# Altium schematic symbol library LimeMicroAltiumLib.SchLib: 659 symbols (part 12 of 22)
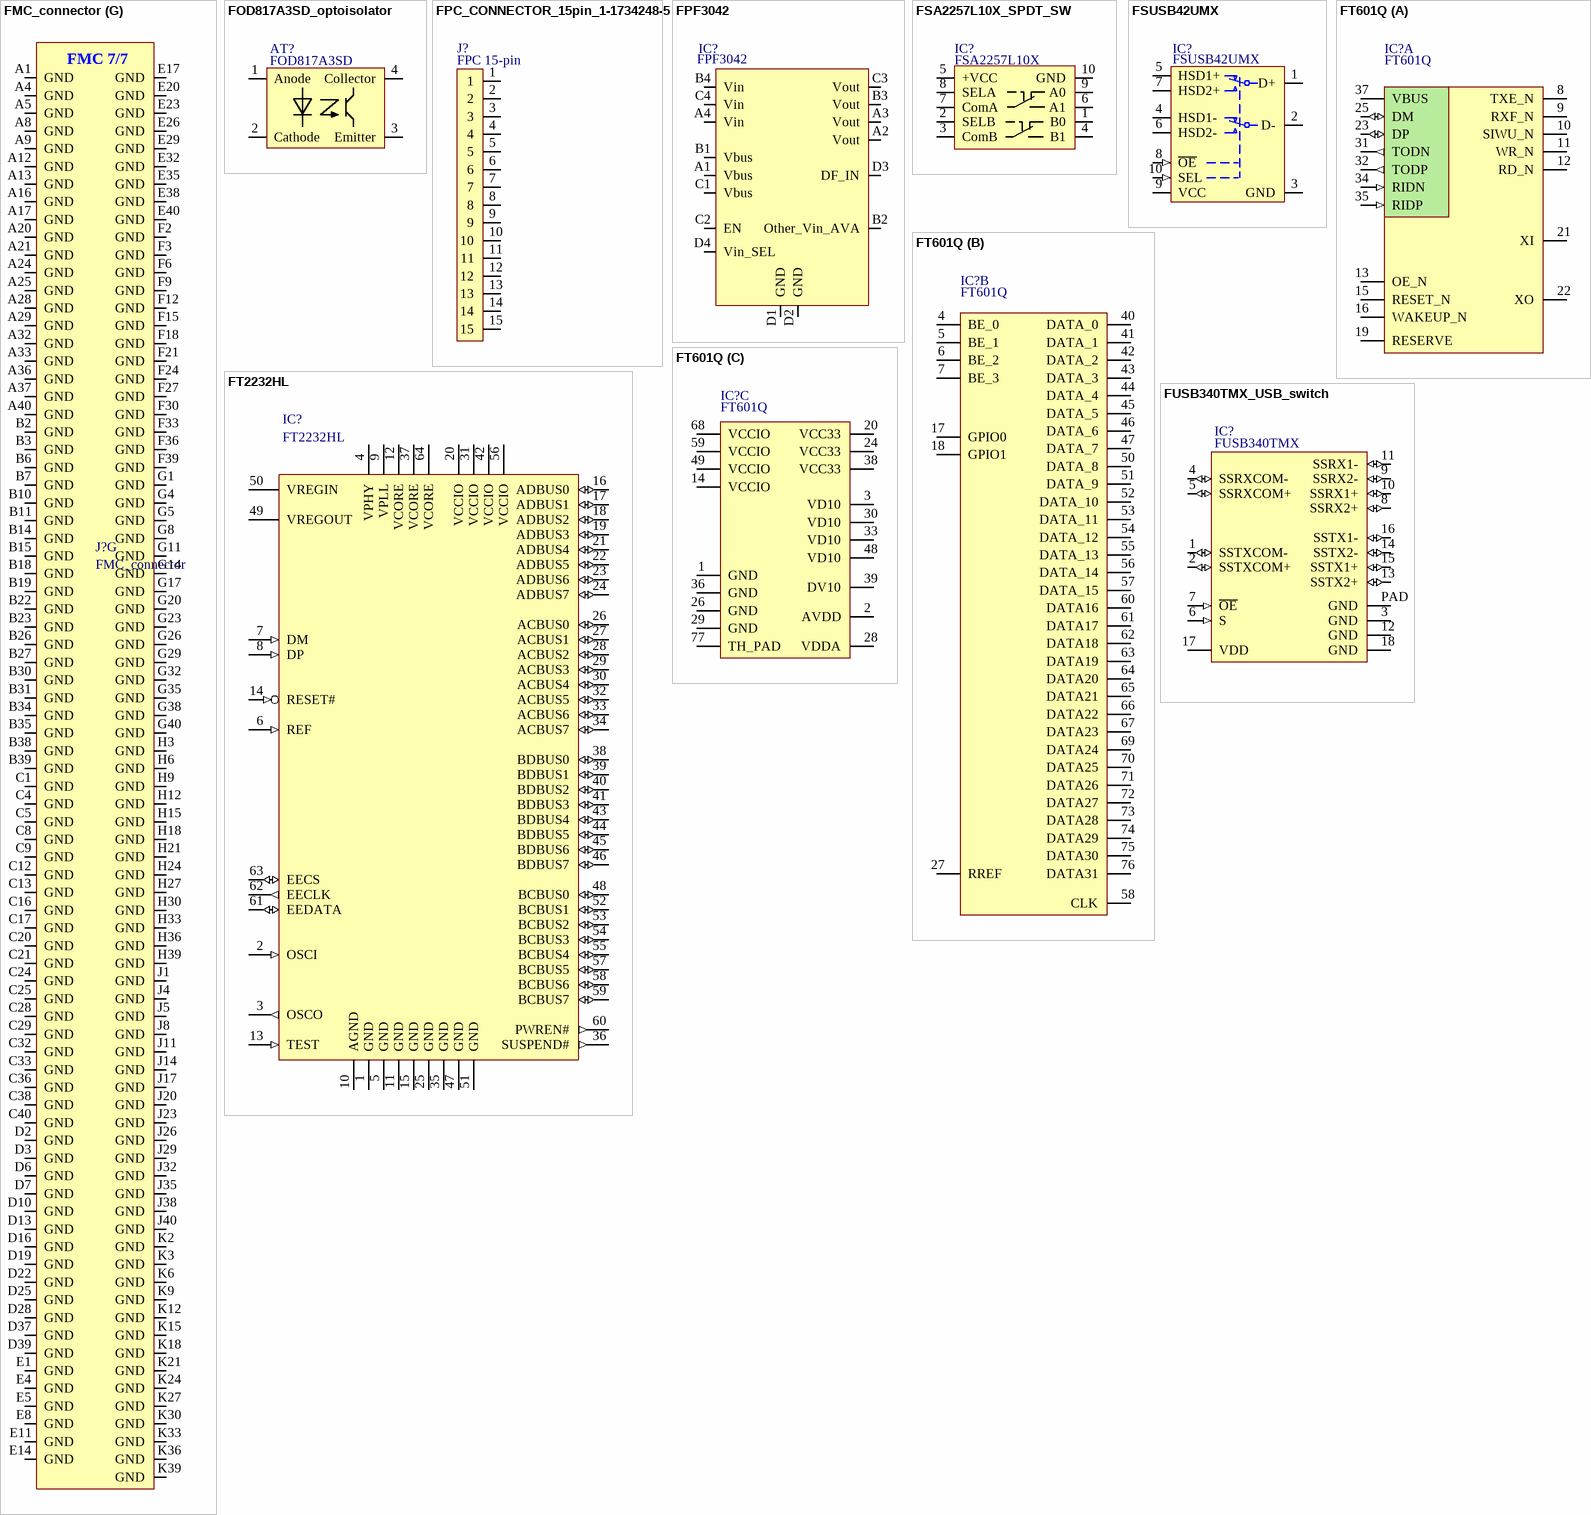
[diagram p89: symbols FMC_connector to FUSB340TMX_USB_switch]

## FMC_connector
designator J?
Manufacturer Part Number: ASP-134603-01; Supplier 1: Digi-Key; Category: Connectors, Interconnects; Supplier Part Number: SAM8729-ND
footprint FMC_full_conn
part A pins: C10 LA06_P, C11 LA06_N, C14 LA10_P, C15 LA10_N, C18 LA14_P, C19 LA14_N, C22 LA18_CC_P, C23 LA18_CC_N, C26 LA27_P, C27 LA27_N, D8 LA01_CC_P, D9 LA01_CC_N, D11 LA05_P, D12 LA05_N, D14 LA09_P, D15 LA09_N, D17 LA13_P, D18 LA13_N, D20 LA17_CC_P, D21 LA17_CC_N, D23 LA23_P, D24 LA23_N, D26 LA26_P, D27 LA26_N, G6 LA00_CC_P, G7 LA00_CC_N, G9 LA03_P, G10 LA03_N, G12 LA08_P, G13 LA08_N, G15 LA12_P, G16 LA12_N, G18 LA16_P, G19 LA16_N, G21 LA20_P, G22 LA20_N, G24 LA22_P, G25 LA22_N, G27 LA25_P, G28 LA25_N, G30 LA29_P, G31 LA29_N, G33 LA31_P, G34 LA31_N, G36 LA33_P, G37 LA33_N, H7 LA02_P, H8 LA02_N, H10 LA04_P, H11 LA04_N, H13 LA07_P, H14 LA07_N, H16 LA11_P, H17 LA11_N, H19 LA15_P, H20 LA15_N, H22 LA19_P, H23 LA19_N, H25 LA21_P, H26 LA21_N, H28 LA24_P, H29 LA24_N, H31 LA28_P, H32 LA28_N, H34 LA30_P, H35 LA30_N, H37 LA32_P, H38 LA32_N
part B pins: E2 HA01_CC_P, E3 HA01_CC_N, E6 HA05_P, E7 HA05_N, E9 HA09_P, E10 HA09_N, E12 HA13_P, E13 HA13_N, E15 HA16_P, E16 HA16_N, E18 HA20_P, E19 HA20_N, F4 HA00_CC_P, F5 HA00_CC_N, F7 HA04_P, F8 HA04_N, F10 HA08_P, F11 HA08_N, F13 HA12_P, F14 HA12_N, F16 HA15_P, F17 HA15_N, F19 HA19_P, F20 HA19_N, J6 HA03_P, J7 HA03_N, J9 HA07_P, J10 HA07_N, J12 HA11_P, J13 HA11_N, J15 HA14_P, J16 HA14_N, J18 HA18_P, J19 HA18_N, J21 HA22_P, J22 HA22_N, K7 HA02_P, K8 HA02_N, K10 HA06_P, K11 HA06_N, K13 HA10_P, K14 HA10_N, K16 HA17_CC_P, K17 HA17_CC_N, K19 HA21_P, K20 HA21_N, K22 HA23_P, K23 HA23_N
part C pins: E21 HB03_P, E22 HB03_N, E24 HB05_P, E25 HB05_N, E27 HB09_P, E28 HB09_N, E30 HB13_P, E31 HB13_N, E33 HB19_P, E34 HB19_N, E36 HB21_P, E37 HB21_N, F22 HB02_P, F23 HB02_N, F25 HB04_P, F26 HB04_N, F28 HB08_P, F29 HB08_N, F31 HB12_P, F32 HB12_N, F34 HB16_P, F35 HB16_N, F37 HB20_P, F38 HB20_N, J24 HB01_P, J25 HB01_N, J27 HB07_P, J28 HB07_N, J30 HB11_P, J31 HB11_N, J33 HB15_P, J34 HB15_N, J36 HB18_P, J37 HB18_N, K25 HB00_CC_P, K26 HB00_CC_N, K28 HB06_CC_P, K29 HB06_CC_N, K31 HB10_P, K32 HB10_N, K34 HB14_P, K35 HB14_N, K37 HB17_CC_P, K38 HB17_CC_N
part D pins: A2 DP1_M2C_P, A3 DP1_M2C_N, A6 DP2_M2C_P, A7 DP2_M2C_N, A10 DP3_M2C_P, A11 DP3_M2C_N, A14 DP4_M2C_P, A15 DP4_M2C_N, A18 DP5_M2C_P, A19 DP5_M2C_N, A22 DP1_C2M_P, A23 DP1_C2M_N, A26 DP2_C2M_P, A27 DP2_C2M_N, A30 DP3_C2M_P, A31 DP3_C2M_N, A34 DP4_C2M_P, A35 DP4_C2M_N, A38 DP5_C2M_P, A39 DP5_C2M_N, B4 DP9_M2C_P, B5 DP9_M2C_N, B8 DP8_M2C_P, B9 DP8_M2C_N, B12 DP7_M2C_P, B13 DP7_M2C_N, B16 DP6_M2C_P, B17 DP6_M2C_N, B24 DP9_C2M_P, B25 DP9_C2M_N, B28 DP8_C2M_P, B29 DP8_C2M_N, B32 DP7_C2M_P, B33 DP7_C2M_N, B36 DP6_C2M_P, B37 DP6_C2M_N, C2 DP0_C2M_P, C3 DP0_C2M_N, C6 DP0_M2C_P, C7 DP0_M2C_N
part E pins: B1 RES1, B20 GBTCLK1_M2C_P, B21 GBTCLK1_M2C_N, B40 RES0, C30 SCL, C31 SDA, C34 GA0, D1 PG_C2M, D4 GBTCLK0_M2C_P, D5 GBTCLK0_M2C_N, D29 TCK, D30 TDI, D31 TDO, D33 TMS, D34 TRST_L, D35 GA1, F1 PG_M2C, G2 CLK0_C2M_P, G3 CLK0_C2M_N, H2 PRSNT_M2C_L, H4 CLK0_M2C_P, H5 CLK0_M2C_N, J2 CLK1_C2M_P, J3 CLK1_C2M_N, K4 CLK1_M2C_P, K5 CLK1_M2C_N
part F pins: C35 12P0V, C37 12P0V, C39 3P3V, D32 3P3VAUX, D36 3P3V, D38 3P3V, D40 3P3V, E39 VADJ, F40 VADJ, G39 VADJ, H1 VREF_A_M2C, H40 VADJ, J39 VIO_B_M2C, K1 VREF_B_M2C, K40 VIO_B_M2C
part G pins: A1 GND, A4 GND, A5 GND, A8 GND, A9 GND, A12 GND, A13 GND, A16 GND, A17 GND, A20 GND, A21 GND, A24 GND, A25 GND, A28 GND, A29 GND, A32 GND, A33 GND, A36 GND, A37 GND, A40 GND, B2 GND, B3 GND, B6 GND, B7 GND, B10 GND, B11 GND, B14 GND, B15 GND, B18 GND, B19 GND, B22 GND, B23 GND, B26 GND, B27 GND, B30 GND, B31 GND, B34 GND, B35 GND, B38 GND, B39 GND, C1 GND, C4 GND, C5 GND, C8 GND, C9 GND, C12 GND, C13 GND, C16 GND, C17 GND, C20 GND, C21 GND, C24 GND, C25 GND, C28 GND, C29 GND, C32 GND, C33 GND, C36 GND, C38 GND, C40 GND, D2 GND, D3 GND, D6 GND, D7 GND, D10 GND, D13 GND, D16 GND, D19 GND, D22 GND, D25 GND, D28 GND, D37 GND, D39 GND, E1 GND, E4 GND, E5 GND, E8 GND, E11 GND, E14 GND, E17 GND, E20 GND, E23 GND, E26 GND, E29 GND, E32 GND, E35 GND, E38 GND, E40 GND, F2 GND, F3 GND, F6 GND, F9 GND, F12 GND, F15 GND, F18 GND, F21 GND, F24 GND, F27 GND, F30 GND, F33 GND, F36 GND, F39 GND, G1 GND, G4 GND, G5 GND, G8 GND, G11 GND, G14 GND, G17 GND, G20 GND, G23 GND, G26 GND, G29 GND, G32 GND, G35 GND, G38 GND, G40 GND, H3 GND, H6 GND, H9 GND, H12 GND, H15 GND, H18 GND, H21 GND, H24 GND, H27 GND, H30 GND, H33 GND, H36 GND, H39 GND, J1 GND, J4 GND, J5 GND, J8 GND, J11 GND, J14 GND, J17 GND, J20 GND, J23 GND, J26 GND, J29 GND, J32 GND, J35 GND, J38 GND, J40 GND, K2 GND, K3 GND, K6 GND, K9 GND, K12 GND, K15 GND, K18 GND, K21 GND, K24 GND, K27 GND, K30 GND, K33 GND, K36 GND, K39 GND
part A text: FMC 1/7
part B text: FMC 2/7
part C text: FMC 3/7
part D text: FMC 4/7
part E text: FMC 5/7; clocks /; JTAG /; misc /; I2C /
part F text: FMC 6/7; power /; VREF /
part G text: FMC 7/7

## FOD817A3SD_optoisolator
designator AT?, comment FOD817A3SD
Manufacturer: ON Semiconductor / Fairchild; Part Description: Optoisolator Transistor Output 5000Vrms 1 Channel 4-SMD; Number of Channels: 1; Output Voltage: 70V; Forward Current: 50mA; Forward Voltage: 1.4V; Reverse Breakdown Voltage: 6V; Rise Time: 18000ns; Max Power Dissipation: 200mW; Collector Emitter Voltage (VCEO): 200mV; Isolation Voltage: 5kV; Current Transfer Ratio: 160%; Supplier 1: Digi-Key; Manufacturer Part Number 1: FOD817A3SD; Stock 1: 0; Mount: Surface Mount; Case/Package: SMD/SMT; Number of Pins: 4; Weight: 0g; Contact Plating: Matte,Tin; Min Operating Temperature: -55°C; Max Operating Temperature: 110°C; Packaging: Tape and Reel; Package Quantity: 1000; Output Current per Channel: 50mA; Max Collector Current: 50mA; Collector Emitter Saturation Voltage: 200mV; Reverse Voltage (DC): 6V; Fall Time: 18000ns; Number of Elements: 1; Power Dissipation: 200mW; Max Input Current: 50mA; Max Output Voltage: 70V; Input Current: 50mA; Number of Circuits: 1; Radiation Hardening: No; REACH SVHC: No SVHC; Lead Free: Lead Free; ComponentLink1URL: https://www.verical.com/server-webapp/html/getDatasheet?partID=312696; ComponentLink1Description: https://www.verical.com/server-webapp/html/getDatasheet?partID=312696; ComponentLink2URL: https://www.fairchildsemi.com/datasheets/FO/FOD817A.pdf; ComponentLink2Description: https://www.fairchildsemi.com/datasheets/FO/FOD817A.pdf; ComponentLink3URL: http://www.fairchildsemi.com/ds/FO/FOD817A.pdf; ComponentLink3Description: http://www.fairchildsemi.com/ds/FO/FOD817A.pdf; ComponentLink4URL: http://www.fairchildsemi.com/datasheets/FO/FOD817A.pdf; ComponentLink4Description: http://www.fairchildsemi.com/datasheets/FO/FOD817A.pdf; ComponentLink5URL: http://www.mouser.com/ds/2/149/FOD817A-194238.pdf; ComponentLink5Description: http://www.mouser.com/ds/2/149/FOD817A-194238.pdf; ComponentLink6URL: https://www.fairchildsemi.com/datasheets/FO/FOD817D.pdf; ComponentLink6Description: https://www.fairchildsemi.com/datasheets/FO/FOD817D.pdf; Supplier Part Number 1: FOD817A3SDDKR-ND
footprint FOD817A3SD_optoisolator_FOD817
pins: 1 Anode, 2 Cathode, 3 Emitter, 4 Collector

## FPC_CONNECTOR_15pin_1-1734248-5
designator J?, comment FPC 15-pin
Manufacturer: TE Connectivity; Manufacturer Part Number 1: 1-1734248-5; Part Description: 15 Position FPC Connector Contacts, Vertical, 1 Sided 0.039" (1.00mm) Surface Mount; Current Rating: 1A; Voltage Rating: 125V; Gender: Receptacle; Number of Positions: 15; Shielding: Unshielded; Connector Type: Connector,Receptacle,Socket; Wire/Cable Type: Flat Flex; Connector System: Flex-to-Board; Mating Alignment: Yes (With); PCB Mount Alignment: No (Without); PCB Mount Retention: With; Circuit Application: Signal; Pitch: 1mm; Supplier 1: Digi-Key; Stock 1: 11808; Pricing 1: 1=1.03, 10=0.909, 25=0.8556, 50=0.82, 100=0.7843, 250=0.713, 500=0.6417 (USD); Mount: Surface Mount; Contact Plating: Gold; Contact Material: Bronze; Housing Colour: Black; Housing Material: Thermoplastic; Min Operating Temperature: -4°C; Max Operating Temperature: 185°C; Package Quantity: 1000; Packaging: Tape and Reel; Number of Rows: 1; Termination: SMD/SMT; Number of Contacts: 15; Orientation: Straight; Sealable: No (Without); Shrouded: Yes (With); Contact Current Rating: 1A; Length: 22.4mm; Height: 7.7mm; Width: 4.6mm; Depth: 4.6mm; REACH SVHC: Unknown; ELV: Compliant; Flammability Rating: UL94 V-0; Supplier Part Number 1: A101418DKR-ND
footprint FPC_CONNECTOR_15pin_1-1734248-5
pins: 1, 2, 3, 4, 5, 6, 7, 8, 9, 10, 11, 12, 13, 14, 15

## FPF3042
designator IC?
Manufacturer: Fairchild Semiconductor; Manufacturer Part Number 1: FPF3042UCX; Current - Output (Max): 2.7A; Voltage - Supply: 4 V ~ 12.4 V; FET Type: N-Channel; Internal Switch(s): Yes; Current - Supply: 55µA; Ratio - Input:Output: 2:1; Supplier 1: Digi-Key; Operating Temperature: -40°C ~ 85°C; Type: Source Selector Switch; Delay Time - OFF: -; Package / Case: 16-UFBGA, WLCSP; Delay Time - ON: -; Mounting Type: Surface Mount; Applications: Handheld/Mobile Devices; Supplier Device Package: 16-WLCSP; Packaging: Cut Tape (CT); Category: Integrated Circuits (ICs); RoHS: RoHS Compliant; Supplier Part Number 1: FPF3042UCXCT-ND
footprint FPF3042
pins: A1 Vbus, A2 Vout, A3 Vout, A4 Vin, B1 Vbus, B2 Other_Vin_AVA, B3 Vout, B4 Vin, C1 Vbus, C2 EN, C3 Vout, C4 Vin, D1 GND, D2 GND, D3 DF_IN, D4 Vin_SEL

## FSA2257L10X_SPDT_SW
designator IC?, comment FSA2257L10X
Part Description: 2 Circuit IC Switch 2:1 1.15Ohm 10-MicroPak™; Manufacturer: ON Semiconductor / Fairchild; Max Supply Voltage: 5.5V; Min Supply Voltage: 1.65V; Number of Inputs: 2; Number of Outputs: 4; Bandwidth: 350MHz; On-State Resistance: 1.15R; Turn-On Delay Time: 50ns; Turn-Off Delay Time: 20ns; Max Supply Current: 500nA; Supply Type: Single; Throw Configuration: SPDT; Nominal Supply Current: 100nA; Supplier 1: Digi-Key; Supplier Part Number 1: FSA2257L10XCT-ND; Manufacturer Part Number 1: FSA2257L10X; Stock 1: 0; RoHS: Yes; Mount: Surface Mount; Number of Pins: 10; Weight: 0.022g; Min Operating Temperature: -40°C; Max Operating Temperature: 85°C; Packaging: Tape and Reel; Package Quantity: 1; Number of Channels: 2; Termination: SMD/SMT; Number of Bits: 2; Length: 2.1mm; Width: 1.6mm; Height: 0.5mm; Radiation Hardening: No; REACH SVHC: No SVHC; Lead Free: Lead Free; RoHS Compliant: Yes; ComponentLink1URL: https://datasheet.ciiva.com/1582/36744-1582076.pdf?src-supplier=Farnell; ComponentLink1Description: https://datasheet.ciiva.com/1582/36744-1582076.pdf?src-supplier=Farnell; ComponentLink2URL: https://datasheet.ciiva.com/4918/fsa2257-111936-4918064.pdf?src-supplier=Mouser; ComponentLink2Description: https://datasheet.ciiva.com/4918/fsa2257-111936-4918064.pdf?src-supplier=Mouser; ComponentLink3URL: https://datasheet.ciiva.com/1582/1725695-1582075.pdf?src-supplier=Farnell; ComponentLink3Description: https://datasheet.ciiva.com/1582/1725695-1582075.pdf?src-supplier=Farnell; ComponentLink4URL: https://datasheet.ciiva.com/7641/1725695-7641818.pdf?src-supplier=Element14; ComponentLink4Description: https://datasheet.ciiva.com/7641/1725695-7641818.pdf?src-supplier=Element14; ComponentLink5URL: https://datasheet.ciiva.com/2979/fsa2257-2979464.pdf?src-supplier=Avnet; ComponentLink5Description: https://datasheet.ciiva.com/2979/fsa2257-2979464.pdf?src-supplier=Avnet; ComponentLink6URL: https://datasheet.ciiva.com/17282/fsa2257-17282699.pdf?src-supplier=Future+Electronics; ComponentLink6Description: https://datasheet.ciiva.com/17282/fsa2257-17282699.pdf?src-supplier=Future+Electronics; ComponentLink7URL: https://datasheet.ciiva.com/1676/fsa2257-1676677.pdf?src-supplier=Digi-Key; ComponentLink7Description: https://datasheet.ciiva.com/1676/fsa2257-1676677.pdf?src-supplier=Digi-Key; ComponentLink8URL: https://datasheet.ciiva.com/6638/fsa2257-6638730.pdf?src-supplier=Digi-Key; ComponentLink8Description: https://datasheet.ciiva.com/6638/fsa2257-6638730.pdf?src-supplier=Digi-Key
footprint FSA2257L10X_SPDT_SW_10MICROPAK (Footprint not found)
pins: 1 B0, 2 SELB, 3 ComB, 4 B1, 5 +VCC, 6 A1, 7 ComA, 8 SELA, 9 A0, 10 GND

## FSUSB42UMX
designator IC?
Part Description: USB Switch IC 1 Channel 10-UMLP (1.8x1.4); Manufacturer: ON Semiconductor; Switch Circuit: DPDT; On-State Resistance (Max): 6.5 Ohm; Voltage - Supply, Single (V+): 2.4 V ~ 4.4 V; -3db Bandwidth: 720MHz; Supplier 1: Digi-Key; Manufacturer Part Number 1: FSUSB42UMX; RoHS: RoHS Compliant; Category: Integrated Circuits (ICs); Stock 1: 8344; Pricing 1: 1=0.59, 10=0.502, 100=0.3749, 500=0.29458, 1000=0.22763 (USD); Packaging: Cut Tape (CT); Part Status: Active; Applications: USB; Multiplexer/Demultiplexer Circuit: -; Voltage - Supply, Dual (V±): -; Features: Break-Before-Make, USB 2.0; Operating Temperature: -40°C ~ 85°C (TA); Package / Case: 10-UFQFN; Supplier Device Package: 10-UMLP (1.8x1.4); Base Part Number: FSUSB42; ComponentLink1URL: https://www.fairchildsemi.com/datasheets/FS/FSUSB42.pdf; ComponentLink1Description: https://www.fairchildsemi.com/datasheets/FS/FSUSB42.pdf; Supplier Part Number 1: FSUSB42UMXCT-ND
pins: 1 D+, 2 D-, 3 GND, 4 HSD1-, 5 HSD1+, 6 HSD2-, 7 HSD2+, 8 ~{OE} (in), 9 VCC (power), 10 SEL (in)

## FT601Q
designator IC?
Manufacturer: FTDI, Future Technology Devices International Ltd; Manufacturer Part Number 1: FT601Q-T; Function: Bridge, USB to FIFO; Standards: USB 3.0; Voltage - Supply: 1.65 V ~ 3.6 V; Protocol: USB; Interface: FIFO; Supplier 1: Digi-Key; Operating Temperature: -40°C ~ 85°C; Packaging: Tray; Category: Integrated Circuits (ICs); Package / Case: 76-VFQFN Exposed Pad; Supplier Device Package: 76-QFN (9x9); Current - Supply: -; RoHS: RoHS Compliant; Supplier Part Number 1: 768-1252-ND
footprint FT601Q (QFN, 76-Leads, Body 9,05x9,05mm, Pitch 0,40mm, Thermal Pad 5,55x5,55mm, IPC High Density)
part A pins: 8 TXE_N, 9 RXF_N, 10 SIWU_N, 11 WR_N, 12 RD_N, 13 OE_N, 15 RESET_N, 16 WAKEUP_N, 19 RESERVE, 21 XI, 22 XO, 23 DP (io), 25 DM (io), 31 TODN (out), 32 TODP (out), 34 RIDN (in), 35 RIDP (in), 37 VBUS
part B pins: 4 BE_0, 5 BE_1, 6 BE_2, 7 BE_3, 17 GPIO0, 18 GPIO1, 27 RREF, 40 DATA_0, 41 DATA_1, 42 DATA_2, 43 DATA_3, 44 DATA_4, 45 DATA_5, 46 DATA_6, 47 DATA_7, 50 DATA_8, 51 DATA_9, 52 DATA_10, 53 DATA_11, 54 DATA_12, 55 DATA_13, 56 DATA_14, 57 DATA_15, 58 CLK, 60 DATA16, 61 DATA17, 62 DATA18, 63 DATA19, 64 DATA20, 65 DATA21, 66 DATA22, 67 DATA23, 69 DATA24, 70 DATA25, 71 DATA26, 72 DATA27, 73 DATA28, 74 DATA29, 75 DATA30, 76 DATA31
part C pins: 1 GND, 2 AVDD, 3 VD10, 14 VCCIO, 20 VCC33, 24 VCC33, 26 GND, 28 VDDA, 29 GND, 30 VD10, 33 VD10, 36 GND, 38 VCC33, 39 DV10, 48 VD10, 49 VCCIO, 59 VCCIO, 68 VCCIO, 77 TH_PAD

## FT2232HL
designator IC?
Manufacturer: FTDI, Future Technology Devices International Ltd; Voltage - Supply: 3 V ~ 3.6 V; Current - Supply: 70mA; Standards: USB 2.0; Interface: UART; Function: Bridge, USB to UART; Supplier 1: Digi-Key; Category: Integrated Circuits (ICs); Package / Case: 64-LQFP; Supplier Part Number 1: 768-1024-2-ND
footprint FT2232HL_LQFP-64_M (Thin QFP, 64-Leads, Body 10x10mm, Pitch 0.5mm, IPC Low Density)
pins: 1 GND (power), 2 OSCI (in), 3 OSCO (out), 4 VPHY (power), 5 GND (power), 6 REF (in), 7 DM (in), 8 DP (in), 9 VPLL (power), 10 AGND (power), 11 GND (power), 12 VCORE (power), 13 TEST (in), 14 RESET# (in), 15 GND (power), 16 ADBUS0 (io), 17 ADBUS1 (io), 18 ADBUS2 (io), 19 ADBUS3 (io), 20 VCCIO (power), 21 ADBUS4 (io), 22 ADBUS5 (io), 23 ADBUS6 (io), 24 ADBUS7 (io), 25 GND (power), 26 ACBUS0 (io), 27 ACBUS1 (io), 28 ACBUS2 (io), 29 ACBUS3 (io), 30 ACBUS4 (io), 31 VCCIO (power), 32 ACBUS5 (io), 33 ACBUS6 (io), 34 ACBUS7 (io), 35 GND (power), 36 SUSPEND# (out), 37 VCORE (power), 38 BDBUS0 (io), 39 BDBUS1 (io), 40 BDBUS2 (io), 41 BDBUS3 (io), 42 VCCIO (power), 43 BDBUS4 (io), 44 BDBUS5 (io), 45 BDBUS6 (io), 46 BDBUS7 (io), 47 GND (power), 48 BCBUS0 (io), 49 VREGOUT (power), 50 VREGIN (power), 51 GND (power), 52 BCBUS1 (io), 53 BCBUS2 (io), 54 BCBUS3 (io), 55 BCBUS4 (io), 56 VCCIO (power), 57 BCBUS5 (io), 58 BCBUS6 (io), 59 BCBUS7 (io), 60 PWREN# (out), 61 EEDATA (io), 62 EECLK (out), 63 EECS (io), 64 VCORE (power)

## FUSB340TMX_USB_switch
designator IC?, comment FUSB340TMX
Part Description: USB Switch USB 3.1 USB Interface 18-TMLP (2x2.8); Manufacturer: ON Semiconductor / Fairchild; Interface: USB; Operating Supply Current: 12uA; Number of Switches: 4; Data Rate: 10Gbps; Max Supply Voltage: 5V; Min Supply Voltage: 1.5V; Supplier 1: Digikey; Supplier Part Number 1: FUSB340TMXCT-ND; Manufacturer Part Number 1: FUSB340TMX; Stock 1: 7942; Pricing 1: 1=1,15, 10=1,026, 25=0,9744, 100=0,7481, 250=0,66108, 500=0,6263, 1000=0,48712, 2500=0,46277 (USD); RoHS: Yes; Mount: Surface Mount; Number of Pins: 18; Weight: 0.0065g; Min Operating Temperature: -40°C; Max Operating Temperature: 85°C; Packaging: Cut Tape; Series: -; Nominal Supply Current: 12uA; Height: 400um; RoHS Compliant: Yes; ComponentLink1URL: http://www.farnell.com/datasheets/2313412.pdf?src-supplier=Farnell; ComponentLink1Description: http://www.farnell.com/datasheets/2313412.pdf?src-supplier=Farnell; ComponentLink2URL: http://www.farnell.com/datasheets/2313412.pdf?src-supplier=Newark; ComponentLink2Description: http://www.farnell.com/datasheets/2313412.pdf?src-supplier=Newark; ComponentLink3URL: https://datasheet.octopart.com/FUSB340TMX-ON-Semiconductor-datasheet-85553255.pdf?src-supplier=Farnell; ComponentLink3Description: https://datasheet.octopart.com/FUSB340TMX-ON-Semiconductor-datasheet-85553255.pdf?src-supplier=Farnell; ComponentLink4URL: https://datasheet.octopart.com/FUSB340TMX-ON-Semiconductor-datasheet-46935021.pdf?src-supplier=Future+Electronics; ComponentLink4Description: https://datasheet.octopart.com/FUSB340TMX-ON-Semiconductor-datasheet-46935021.pdf?src-supplier=Future+Electronics; ComponentLink5URL: https://www.fairchildsemi.com/Assets/-Featured-Collateral/Datasheet-Briefs/FUSB340_PB_Final.pdf?src-supplier=Avnet; ComponentLink5Description: https://www.fairchildsemi.com/Assets/-Featured-Collateral/Datasheet-Briefs/FUSB340_PB_Final.pdf?src-supplier=Avnet
footprint FUSB340TMX_USB_switch_18-XFQFN (Footprint not found)
pins: 1 SSTXCOM- (io), 2 SSTXCOM+ (io), 3 GND, 4 SSRXCOM- (io), 5 SSRXCOM+ (io), 6 S (in), 7 ~{OE} (in), 8 SSRX2+ (io), 9 SSRX2- (io), 10 SSRX1+ (io), 11 SSRX1- (io), 12 GND, 13 SSTX2+ (io), 14 SSTX2- (io), 15 SSTX1+ (io), 16 SSTX1- (io), 17 VDD (power), 18 GND, PAD GND

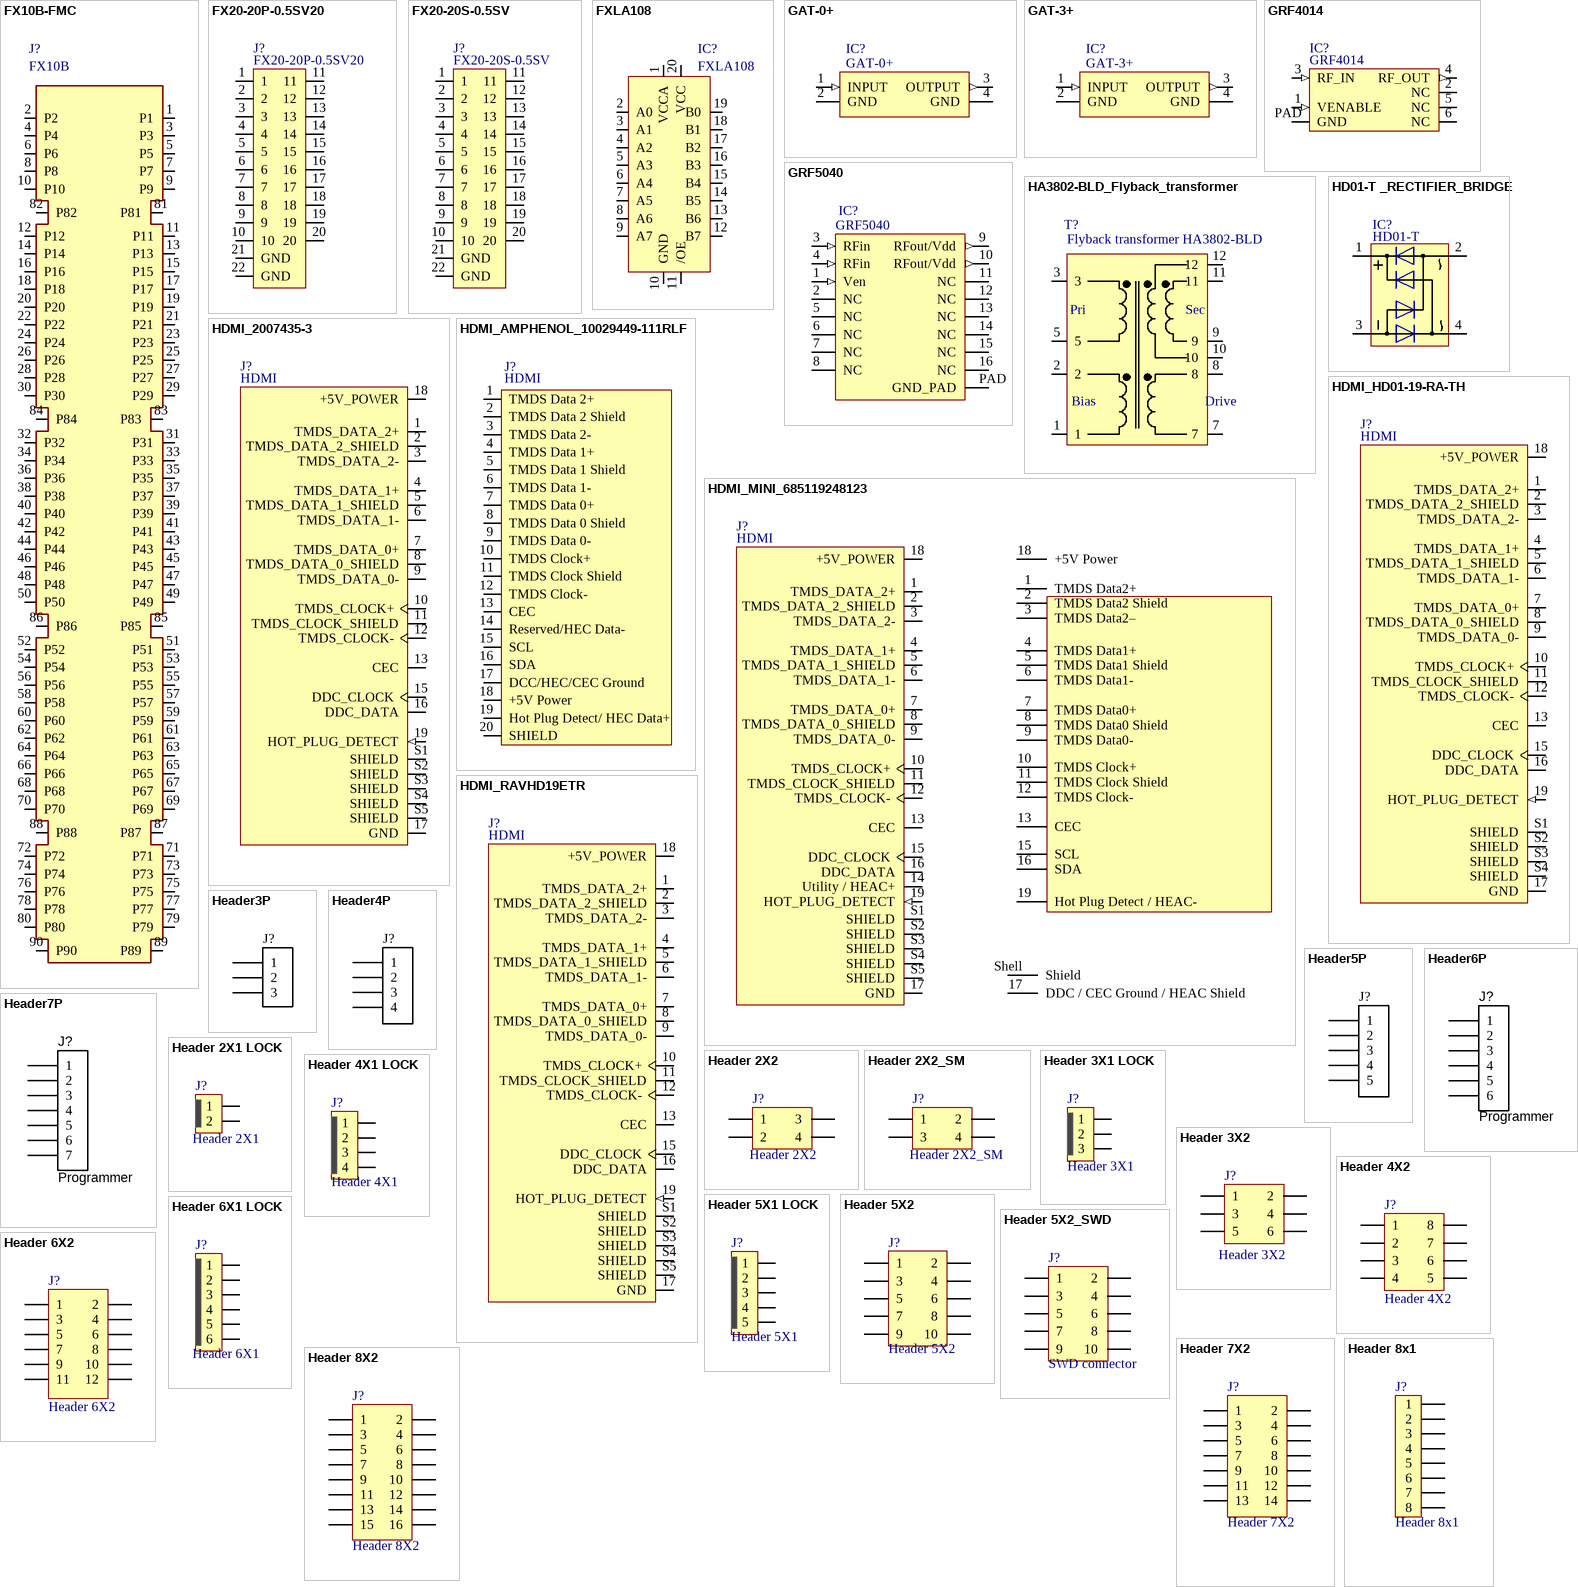
[diagram p49: symbols FX10B-FMC to Header 8X2]

## FX10B-FMC
designator J?, comment FX10B
Manufacturer Part Number 1: FX10B-80S/8-SV(71); Current Rating: 300 mA; Voltage Rating: 50 V; Brand: Hirose Connector; Pitch: 0.5 mm; Number of Positions: 80; Supplier 1: Mouser; Category: Board to Board & Mezzanine Connectors; Contact Plating: Gold; Series: FX10; Termination Style: SMD; Manufacturer: Hirose Connector; Supplier: Mouser; Supplier Part Number 1: 798-FX10B80S8SV71
footprint FX10B-80S/8-SV
pins: 1 P1, 2 P2, 3 P3, 4 P4, 5 P5, 6 P6, 7 P7, 8 P8, 9 P9, 10 P10, 11 P11, 12 P12, 13 P13, 14 P14, 15 P15, 16 P16, 17 P17, 18 P18, 19 P19, 20 P20, 21 P21, 22 P22, 23 P23, 24 P24, 25 P25, 26 P26, 27 P27, 28 P28, 29 P29, 30 P30, 31 P31, 32 P32, 33 P33, 34 P34, 35 P35, 36 P36, 37 P37, 38 P38, 39 P39, 40 P40, 41 P41, 42 P42, 43 P43, 44 P44, 45 P45, 46 P46, 47 P47, 48 P48, 49 P49, 50 P50, 51 P51, 52 P52, 53 P53, 54 P54, 55 P55, 56 P56, 57 P57, 58 P58, 59 P59, 60 P60, 61 P61, 62 P62, 63 P63, 64 P64, 65 P65, 66 P66, 67 P67, 68 P68, 69 P69, 70 P70, 71 P71, 72 P72, 73 P73, 74 P74, 75 P75, 76 P76, 77 P77, 78 P78, 79 P79, 80 P80, 81 P81, 82 P82, 83 P83, 84 P84, 85 P85, 86 P86, 87 P87, 88 P88, 89 P89, 90 P90

## FX20-20P-0.5SV20
designator J?
Manufacturer: Hirose Electric Co Ltd; Part Description: 20 Position Connector Header, Outer Shroud Contacts Surface Mount Gold; Connector Type: Header, Outer Shroud Contacts; Number of Positions: 20; Pitch: 0.020" (0.50mm); Mated Stacking Heights: 20mm, 30mm; Supplier 1: Digi-Key; Manufacturer Part Number: FX20-20P-0.5SV20; RoHS: RoHS Compliant; Category: Connectors, Interconnects; Stock 1: 127; Pricing 1: 1=3.35, 10=3.216, 25=2.948, 50=2.814, 100=2.68, 250=2.345 (USD); Packaging: Tray; Part Status: Active; Mounting Type: Surface Mount; Features: Solder Retention; Contact Finish: Gold; Contact Finish Thickness: 3.90µin (0.099µm); Height Above Board: 0.717" (18.21mm); ComponentLink1URL: https://www.hirose.com/product/download/?distributor=digikey&type=2d&lang=en&num=FX20-20P-0.5SV20; ComponentLink1Description: https://www.hirose.com/product/download/?distributor=digikey&type=2d&lang=en&num=FX20-20P-0.5SV20; Supplier Part Number 1: H122388-ND
footprint FX20-20S-0.5SV20
pins: 1, 2, 3, 4, 5, 6, 7, 8, 9, 10, 11, 12, 13, 14, 15, 16, 17, 18, 19, 20, 21 GND, 22 GND

## FX20-20S-0.5SV
designator J?
Part Description: 20 Position Connector Receptacle, Center Strip Contacts Surface Mount Gold; Manufacturer: Hirose Electric Co Ltd; Connector Type: Receptacle, Center Strip Contacts; Number of Positions: 20; Pitch: 0.020" (0.50mm); Mated Stacking Heights: 15mm, 20mm; Supplier 1: Digi-Key; Manufacturer Part Number: FX20-20S-0.5SV; RoHS: RoHS Compliant; Category: Connectors, Interconnects; Stock 1: 95; Pricing 1: 1=2.58, 10=2.472, 25=2.266, 50=2.163, 100=2.06, 250=1.80252, 500=1.751 (USD); Packaging: Tray; Part Status: Active; Mounting Type: Surface Mount; Features: Solder Retention; Contact Finish: Gold; Contact Finish Thickness: 3.90µin (0.099µm); Height Above Board: 0.327" (8.30mm); ComponentLink1URL: https://media.digikey.com/pdf/Data%20Sheets/Hirose%20PDFs/FX20.pdf; ComponentLink1Description: https://media.digikey.com/pdf/Data%20Sheets/Hirose%20PDFs/FX20.pdf; Supplier Part Number 1: H122373-ND
footprint FX20-20S-0.5SV
pins: 1, 2, 3, 4, 5, 6, 7, 8, 9, 10, 11, 12, 13, 14, 15, 16, 17, 18, 19, 20, 21 GND, 22 GND

## FXLA108
designator IC?
Manufacturer: Fairchild Semiconductor; Logic Function: Translator, Bidirectional, Unidirectional, 3-State; Data Rate: 140Mbps; Voltage - Supply: 1.1 V ~ 3.6 V; Propagation Delay (Max): 4ns; Supplier 1: Digi-Key; Supplier Device Package: 20-DQFN; Category: Integrated Circuits (ICs); Supplier Part Number 1: FXLA108BQXCT-ND
footprint FXLA108 (PQFN, 20-Leads, Body 2,50x4,50mm, Pitch 0,50mm, Thermal Pad 1,00x2,55mm, IPC Medium Density)
pins: 1 VCCA, 2 A0, 3 A1, 4 A2, 5 A3, 6 A4, 7 A5, 8 A6, 9 A7, 10 GND, 11 /OE, 12 B7, 13 B6, 14 B5, 15 B4, 16 B3, 17 B2, 18 B1, 19 B0, 20 VCC

## GAT-0+
designator IC?
Fixed Attenuator 50Ω 0.5W 0dB DC to 8000 MHz; Manufacturer: Mini-Circuits; Part Description: Fixed Attenuator 50Ω 0.5W 0dB DC to 8000 MHz; Supplier 1: Mini-Circuits; Manufacturer Part Number 1: GAT-0+; Supplier Part Number 1: GAT-0+
footprint GAT-0+
pins: 1 INPUT (in), 2 GND, 3 OUTPUT (out), 4 GND

## GAT-3+
designator IC?
Fixed Attenuator 50Ω 0.5W -3dB DC to 8000 MHz; Manufacturer: Mini-Circuits; Part Description: Fixed Attenuator 50Ω 0.5W -3dB DC to 8000 MHz; Supplier 1: Mini-Circuits; Manufacturer Part Number 1: GAT-3+; Supplier Part Number 1: GAT-3+
footprint GAT-0+
pins: 1 INPUT (in), 2 GND, 3 OUTPUT (out), 4 GND

## GRF4014
designator IC?
Manufacturer: Guerrilla RF; Manufacturer Part Number 1: GRF4014-W; Part Description: RF Amplifier .1-6GHz GaAs Gain 17dB; Supplier 1: Mouser; Supplier Part Number 1: 459-GRF4014-W; Stock 1: 2400; Pricing 1: 1=3,20000, 10=3,04000, 100=2,80000, 250=2,48000, 500=2,20000, 1000=1,26000 (USD); RoHS: No
footprint GRF4014_DFN-6
pins: 1 VENABLE (in), 2 NC, 3 RF_IN (in), 4 RF_OUT (out), 5 NC, 6 NC, PAD GND

## GRF5040
designator IC?
Manufacturer: Guerrilla RF; Part Description: RF Amplifier .01-3.8GHz Gain 15.5dB; Manufacturer Part Number 1: GRF5040; Supplier Part Number 1: 459-GRF5040; Supplier 1: Mouser
footprint GRF5040_QFN16 (Footprint not found)
pins: 1 Ven (in), 2 NC, 3 RFin (in), 4 RFin (in), 5 NC, 6 NC, 7 NC, 8 NC, 9 RFout/Vdd (out), 10 RFout/Vdd (out), 11 NC, 12 NC, 13 NC, 14 NC, 15 NC, 16 NC, PAD GND_PAD

## HA3802-BLD_Flyback_transformer
designator T?, comment Flyback transformer HA3802-BLD
Part Description: Audio Transformers / Signal Transformers HA3802 Flyback For TI TPS23753; Manufacturer: Coilcraft; Shielding: Shielded; Inductance: 150uh; Isolation Voltage: 1.5kV; Current Rating: 2A; Max DC Current: 1.2A; DC Resistance (DCR): 560mR; Power Rating: 10W; Supplier 1: Mouser; Manufacturer Part Number 1: HA3802-BLD; RoHS: Yes; Stock 1: 586; Pricing 1: 1 = 5,43000, 10 = 4,89000, 50 = 4,34000, 100 = 3,80000, 1000 = 3,15000, 10000 = 3,15000 (USD); Min Operating Temperature: -40°C; Max Operating Temperature: 125°C; Termination: SMD/SMT; Packaging: Tape and Reel; Package Quantity: 200; Length: 17.2mm; Height: 8.51mm; Width: 14.98mm; Lead Free: Contains Lead; Supplier Part Number 1: 994-HA3802-BLD
footprint PoE13P-50L_Flyback_transformer
footprint HA3802-BLD_Flyback_transformer
pins: 1, 2, 3, 5, 7, 8, 9, 10, 11, 12
text: Pri; Sec; Bias; Drive

## HD01-T _RECTIFIER_BRIDGE
designator IC?, comment HD01-T
Part Description: Bridge Rectifier Single Phase Standard 100V Surface Mount 4-MiniDIP; Manufacturer: Diodes; Max Surge Current: 30A; Forward Voltage: 1V; Peak Reverse Current: 5uA; Forward Current: 400mA; Number of Elements: 1; Max Repetitive Reverse Voltage (Vrrm): 100V; Average Rectified Current: 800mA; Element Configuration: Single; Reverse Voltage (DC): 70V; Capacitance: 10pF; ComponentLink1URL: https://www.diodes.com/assets/Datasheets/ds17001.pdf; ComponentLink1Description: https://www.diodes.com/assets/Datasheets/ds17001.pdf; Supplier 1: Digi-Key; Manufacturer Part Number 1: HD01-T; Stock 1: 186000; Pricing 1: 3000=0.12705, 6000=0.11935, 15000=0.11165, 30000=0.10241, 75000=0.09856 (USD); Mount: Surface Mount; Case/Package: SMD/SMT; Number of Pins: 4; Contact Plating: Matte,Tin; Min Operating Temperature: -55°C; Max Operating Temperature: 150°C; Packaging: Tape and Reel; Package Quantity: 3000; Peak Non-Repetitive Surge Current: 30A; Max Forward Surge Current (Ifsm): 30A; Termination: SMD/SMT; Current Rating: 800mA; Voltage Rating (DC): 100V; Output Current: 800mA; Length: 4.9mm; Height: 2.7mm; Width: 4mm; Radiation Hardening: No; REACH SVHC: No SVHC; Lead Free: Lead Free; ComponentLink2URL: http://www.farnell.com/datasheets/974897.pdf; ComponentLink2Description: http://www.farnell.com/datasheets/974897.pdf; ComponentLink3URL: https://www.verical.com/server-webapp/html/getDatasheet?partID=142523; ComponentLink3Description: https://www.verical.com/server-webapp/html/getDatasheet?partID=142523; ComponentLink4URL: http://www.jameco.com/Jameco/Products/ProdDS/1540412.pdf; ComponentLink4Description: http://www.jameco.com/Jameco/Products/ProdDS/1540412.pdf; ComponentLink5URL: http://www.diodes.com/datasheets/ds17003.pdf; ComponentLink5Description: http://www.diodes.com/datasheets/ds17003.pdf; ComponentLink6URL: http://www.mouser.com/ds/2/115/ds17003-38038.pdf; ComponentLink6Description: http://www.mouser.com/ds/2/115/ds17003-38038.pdf; Supplier Part Number 1: HD01DITR-ND
footprint HD01-T _RECTIFIER_BRIDGE_v1
pins: 1, 2, 3, 4

## HDMI_2007435-3
designator J?, comment HDMI
Part Description: CONN RCPT HDMI 19POS PCB R/A; Manufacturer: TE Connectivity; Manufacturer Part Number 1: 2007435-3; Plating: Stainless Steel; Connector Type: Receptacle; Number of Contacts: 19; Number of Ports: 1; Preloaded: Yes; Contact Current Rating: 500mA; Circuit Application: Signal; Connector System: Cable-to-Board; Shielding: Shielded; Tail Length: 2.3mm; Pitch: 0.039inch; ComponentLink1URL: https://datasheet.octopart.com/RAVHD19ETR-Switchcraft-datasheet-151548520.pdf?src-supplier=Sager+Electronics; ComponentLink1Description: https://datasheet.octopart.com/RAVHD19ETR-Switchcraft-datasheet-151548520.pdf?src-supplier=Sager+Electronics; Supplier 1: Digikey; Supplier Part Number 1: A118325-ND; Stock 1: 79; Pricing 1: 1=6, 10=4,899, 25=4,7592, 40=3,93475, 168=3,89262 (USD); RoHS: Yes; Mount: Through Hole; Contact Material: Copper Alloy; Contact Plating: Gold; Housing Color: Black; Housing Material: Polybutylene; Insulation Color: Black; Min Operating Temperature: -4°C; Max Operating Temperature: 185°C; Packaging: Tape and Reel; Gender: Receptacle; Termination: Through Hole; Orientation: Right Angle; Number of Positions: 19; Series: -; Length: 7.7mm; Lead Free: Lead Free; ELV: Compliant; RoHS Compliant: Yes; ComponentLink2URL: https://datasheet.ciiva.com/29660/eng-cd-2007435-d-29660043.pdf?src-supplier=Digikey; ComponentLink2Description: https://datasheet.ciiva.com/29660/eng-cd-2007435-d-29660043.pdf?src-supplier=Digikey
footprint HDMI_2007435-3
pins: 1 TMDS_DATA_2+ (io), 2 TMDS_DATA_2_SHIELD, 3 TMDS_DATA_2- (io), 4 TMDS_DATA_1+ (io), 5 TMDS_DATA_1_SHIELD, 6 TMDS_DATA_1- (io), 7 TMDS_DATA_0+ (io), 8 TMDS_DATA_0_SHIELD, 9 TMDS_DATA_0- (io), 10 TMDS_CLOCK+ (io), 11 TMDS_CLOCK_SHIELD, 12 TMDS_CLOCK- (io), 13 CEC (io), 15 DDC_CLOCK (io), 16 DDC_DATA (io), 17 GND (power), 18 +5V_POWER (power), 19 HOT_PLUG_DETECT (in), S1 SHIELD, S2 SHIELD, S3 SHIELD, S4 SHIELD, S5 SHIELD

## HDMI_AMPHENOL_10029449-111RLF
designator J?, comment HDMI
Manufacturer: Amphenol FCI; Manufacturer Part Number 1: 10029449-111RLF; Part Description: HDMI HDMI™ 1.4 Receptacle Connector 19 Position Surface Mount, Right Angle; Through Hole; Body Material: Stainless Steel; Gender: Receptacle; Voltage Rating: 40V; Number of Contacts: 19; Insulation Resistance: 100MR; Number of Ports: 1; Pitch: 0.5mm; Supplier 1: Mouser; Stock 1: 4435; Pricing 1: 1=0.72, 10=0.661, 50=0.525, 100=0.503, 1000=0.367, 10000=0.325 (USD); Mount: Horizontal,Surface Mount; Contact Material: Bronze,Copper Alloy; Contact Plating: Gold; Colour: Black; Number of Terminals: 19; Housing Material: Thermoplastic; Min Operating Temperature: -55°C; Max Operating Temperature: 85°C; Package Quantity: 400; Packaging: Tape and Reel; Connector Type: HDMI; Number of Positions: 19; Termination: Solder; Max Voltage Rating (AC): 40V; Orientation: Right Angle; Features: Shielded; Length: 15.7mm; Depth: 9.5mm; Radiation Hardening: No; REACH SVHC: No SVHC; Lead Free: Lead Free; Supplier Part Number 1: 649-10029449-111RLF
footprint HDMI_AMPHENOL_10029449-111RLF
pins: 1 TMDS Data 2+, 2 TMDS Data 2 Shield, 3 TMDS Data 2-, 4 TMDS Data 1+, 5 TMDS Data 1 Shield, 6 TMDS Data 1-, 7 TMDS Data 0+, 8 TMDS Data 0 Shield, 9 TMDS Data 0-, 10 TMDS Clock+, 11 TMDS Clock Shield, 12 TMDS Clock-, 13 CEC, 14 Reserved/HEC Data-, 15 SCL, 16 SDA, 17 DCC/HEC/CEC Ground, 18 +5V Power, 19 Hot Plug Detect/ HEC Data+, 20 SHIELD

## HDMI_HD01-19-RA-TH
designator J?, comment HDMI
Manufacturer: CUI Devices; Manufacturer Part Number 1: HD01-19-RA-TH; Part Description: HDMI HDMI 2.1 Receptacle Connector 19 Position Through Hole, Right Angle; Supplier 1: Digi-Key; Supplier Part Number 1: 2223-HD01-19-RA-TH-ND; Stock 1: 2182; Pricing 1: 1=2,15000, 10=1,87000, 25=1,79080, 70=1,75100, 140=1,67136, 280=1,51221, 490=1,39282, 980=1,19385, 2450=1,11426 (USD); RoHS: No
footprint HDMI_HD01-19-RA-TH
pins: 1 TMDS_DATA_2+ (io), 2 TMDS_DATA_2_SHIELD, 3 TMDS_DATA_2- (io), 4 TMDS_DATA_1+ (io), 5 TMDS_DATA_1_SHIELD, 6 TMDS_DATA_1- (io), 7 TMDS_DATA_0+ (io), 8 TMDS_DATA_0_SHIELD, 9 TMDS_DATA_0- (io), 10 TMDS_CLOCK+ (io), 11 TMDS_CLOCK_SHIELD, 12 TMDS_CLOCK- (io), 13 CEC (io), 15 DDC_CLOCK (io), 16 DDC_DATA (io), 17 GND (power), 18 +5V_POWER (power), 19 HOT_PLUG_DETECT (in), S1 SHIELD, S2 SHIELD, S3 SHIELD, S4 SHIELD

## HDMI_MINI_685119248123
designator J?, comment HDMI
Manufacturer: Wurth Electronics; Manufacturer Part Number 1: 685119248123; Body Material: Brass; Number of Contacts: 19; Gender: Receptacle; Mating Cycles: 5000; Shielding: Shielded; Number of Ports: 1; ComponentLink1URL: https://datasheet.octopart.com/RAVHD19ETR-Switchcraft-datasheet-151548520.pdf?src-supplier=Sager+Electronics; ComponentLink1Description: https://datasheet.octopart.com/RAVHD19ETR-Switchcraft-datasheet-151548520.pdf?src-supplier=Sager+Electronics; ComponentLink2URL: https://datasheet.ciiva.com/29660/eng-cd-2007435-d-29660043.pdf?src-supplier=Digikey; ComponentLink2Description: https://datasheet.ciiva.com/29660/eng-cd-2007435-d-29660043.pdf?src-supplier=Digikey; Supplier 1: Digikey; Supplier Part Number 1: 732-5254-1-ND; Stock 1: 3591; Pricing 1: 1=2,72, 50=2,331, 100=2,1159, 500=1,9881 (USD); RoHS: Yes; Mount: Surface Mount,Horizontal,Through Hole; Contact Plating: Gold; Insulation Color: Black; Min Operating Temperature: -40°C; Max Operating Temperature: 85°C; Package Quantity: 1; Packaging: Cut Tape; Connector Type: HDMI; Features: Shielded; Series: WR-COM; Termination: Solder; RoHS Compliant: Yes; Flammability Rating: UL94 V-0; Reach SVHC Compliant: Unknown; ComponentLink3URL: https://datasheet.ciiva.com/29660/685119248123-29660258.pdf?src-supplier=Digikey; ComponentLink3Description: https://datasheet.ciiva.com/29660/685119248123-29660258.pdf?src-supplier=Digikey
footprint HDMI_2007435-3
pins: 1 TMDS_DATA_2+ (io), 1 TMDS Data2+, 2 TMDS_DATA_2_SHIELD, 2 TMDS Data2 Shield, 3 TMDS_DATA_2- (io), 3 TMDS Data2–, 4 TMDS_DATA_1+ (io), 4 TMDS Data1+, 5 TMDS_DATA_1_SHIELD, 5 TMDS Data1 Shield, 6 TMDS_DATA_1- (io), 6 TMDS Data1-, 7 TMDS_DATA_0+ (io), 7 TMDS Data0+, 8 TMDS_DATA_0_SHIELD, 8 TMDS Data0 Shield, 9 TMDS_DATA_0- (io), 9 TMDS Data0-, 10 TMDS_CLOCK+ (io), 10 TMDS Clock+, 11 TMDS_CLOCK_SHIELD, 11 TMDS Clock Shield, 12 TMDS_CLOCK- (io), 12 TMDS Clock-, 13 CEC (io), 13 CEC, 14 Utility / HEAC+, 15 DDC_CLOCK (io), 15 SCL, 16 DDC_DATA (io), 16 SDA, 17 GND (power), 17 DDC / CEC Ground / HEAC Shield, 18 +5V_POWER (power), 18 +5V Power, 19 HOT_PLUG_DETECT (in), 19 Hot Plug Detect / HEAC-, S1 SHIELD, S2 SHIELD, S3 SHIELD, S4 SHIELD, S5 SHIELD, Shell Shield

## HDMI_RAVHD19ETR
designator J?, comment HDMI
Part Description: HDMI HDMI 2.0 Receptacle Connector 19 Position Through Hole, Right Angle; Manufacturer: Switchcraft Conxall; Manufacturer Part Number 1: RAVHD19ETR; Supplier 1: Digikey; Supplier Part Number 1: 137-RAVHD19ECT-ND; Stock 1: 4331; Pricing 1: 1=3,73, 10=2,857, 25=2,576, 50=2,386 (USD); RoHS: No; ComponentLink1URL: https://datasheet.octopart.com/RAVHD19ETR-Switchcraft-datasheet-151548520.pdf?src-supplier=Sager+Electronics; ComponentLink1Description: https://datasheet.octopart.com/RAVHD19ETR-Switchcraft-datasheet-151548520.pdf?src-supplier=Sager+Electronics
footprint HDMI_RAVHD19ETR
pins: 1 TMDS_DATA_2+ (io), 2 TMDS_DATA_2_SHIELD, 3 TMDS_DATA_2- (io), 4 TMDS_DATA_1+ (io), 5 TMDS_DATA_1_SHIELD, 6 TMDS_DATA_1- (io), 7 TMDS_DATA_0+ (io), 8 TMDS_DATA_0_SHIELD, 9 TMDS_DATA_0- (io), 10 TMDS_CLOCK+ (io), 11 TMDS_CLOCK_SHIELD, 12 TMDS_CLOCK- (io), 13 CEC (io), 15 DDC_CLOCK (io), 16 DDC_DATA (io), 17 GND (power), 18 +5V_POWER (power), 19 HOT_PLUG_DETECT (in), S1 SHIELD, S2 SHIELD, S3 SHIELD, S4 SHIELD, S5 SHIELD

## Header3P
designator J?, comment Header 3x1 pin  (value not drawn)
Header, 3-pin
footprint hdr1x3 (Connector; Header; 3 Position)
pins: 1, 2, 3

## Header4P
designator J?, comment Programmer  (value not drawn)
Header, 4-pin
footprint HEADER4X1_TH
pins: 1, 2, 3, 4

## Header5P
designator J?, comment Programmer  (value not drawn)
Header, 5-pin
footprint Header5x1_TH
pins: 1, 2, 3, 4, 5

## Header6P
designator J?, comment Programmer
Header, 6-pin
footprint HDR1X6 (Connector; Header; 6 Position)
pins: 1, 2, 3, 4, 5, 6

## Header7P
designator J?, comment Programmer
Header, 7-pin; Manufacturer: Sullins Connector Solutions; Manufacturer Part Number 1: PEC07SAAN; Part Description: 7 Positions Header, Unshrouded, Breakaway Connector 0.100" (2.54mm) Through Hole Tin; Number of Positions Loaded: All; Pitch: 0.100" (2.54mm); Number of Positions: 7; Connector Type: Header, Unshrouded, Breakaway; Supplier 1: Digi-Key; Color: Black; Packaging: Bulk; Category: Connectors, Interconnects; Contact Finish: Tin; Number of Rows: 1; RoHS: RoHS Compliant; Contact Type: Male Pin; Mounting Type: Through Hole; Features: -; Contact Mating Length: 0.230" (5.84mm); Termination: Solder; Fastening Type: -; Contact Finish Thickness: 100µin (2.54µm); Row Spacing: -; Supplier Part Number 1: S1012E-07-ND
footprint Header7x1_TH
pins: 1, 2, 3, 4, 5, 6, 7

## Header 2X1 LOCK
designator J?, comment Header 2X1
footprint Header1x2_TH_LOCKING
pins: 1, 2

## Header 2X2
designator J?
Header, 2-Pin, Dual row
footprint Header2x2_TH
pins: 1, 2, 3, 4

## Header 2X2_SM
designator J?
Header, 2-Pin, Dual row
footprint Header2x2_SM
pins: 1, 2, 3, 4

## Header 3X1 LOCK
designator J?, comment Header 3X1
footprint Header1x3_TH_LOCKING
pins: 1, 2, 3

## Header 3X2
designator J?
Header, 2-Pin, Dual row
footprint Header3x2
pins: 1, 2, 3, 4, 5, 6

## Header 4X1 LOCK
designator J?, comment Header 4X1
footprint Header1x4_TH_LOCKING
pins: 1, 2, 3, 4

## Header 4X2
designator J?
Header, 4-Pin, Dual row
footprint Header4x2_SM
pins: 1, 2, 3, 4, 5, 6, 7, 8

## Header 5X1 LOCK
designator J?, comment Header 5X1
footprint Header1x5_TH_LOCKING
pins: 1, 2, 3, 4, 5

## Header 5X2
designator J?
Header, 5-Pin, Dual row
footprint Header5x2_SM
pins: 1, 2, 3, 4, 5, 6, 7, 8, 9, 10

## Header 5X2_SWD
designator J?, comment SWD connector
Header, 5-Pin, Dual row; Manufacturer Part Number 1: M50-3600542; Manufacturer: Harwin Inc; Number of Positions: 10; Molding Height Above Board: 0.039" (1.00mm); Row Spacing: 0.050" (1.27mm); Number of Positions Loaded: All; Connector Type: Unshrouded; Supplier 1: Digi-Key; Contact Mating Length: 0.118" (3.00mm); Category: Connectors, Interconnects; Color: Black; RoHS: RoHS Compliant; Number of Rows: 2; Contact Finish Thickness: 3µin (0.08µm); Height Stacking (Mating): -; Contact Finish: Gold; Termination: Solder; Mounting Type: Surface Mount; Pitch: 0.050" (1.27mm); Features: -; Packaging: Bulk; Supplier Part Number 1: 952-1389-ND
footprint SWD_10_pin
pins: 1, 2, 3, 4, 5, 6, 7, 8, 9, 10

## Header 6X1 LOCK
designator J?, comment Header 6X1
footprint Header1x6_TH_LOCKING
pins: 1, 2, 3, 4, 5, 6

## Header 6X2
designator J?
Header, 8-Pin, Dual row
footprint Header6x2_SM
pins: 1, 2, 3, 4, 5, 6, 7, 8, 9, 10, 11, 12

## Header 7X2
designator J?
Header, 7-Pin, Dual row; Part Description: *
footprint Header7x2_TH (JTAG)
pins: 1, 2, 3, 4, 5, 6, 7, 8, 9, 10, 11, 12, 13, 14

## Header 8x1
designator J?
Header, 8-Pin, Single row; Part Description: *
footprint HEADER_8x1_TH_HALF_PITCH (Footprint not found)
pins: 1, 2, 3, 4, 5, 6, 7, 8

## Header 8X2
designator J?
Header, 8-Pin, Dual row; LatestRevisionDate: 17-Jul-2002; LatestRevisionNote: Re-released for DXP Platform.; Publisher: Altium Limited
pins: 1, 2, 3, 4, 5, 6, 7, 8, 9, 10, 11, 12, 13, 14, 15, 16

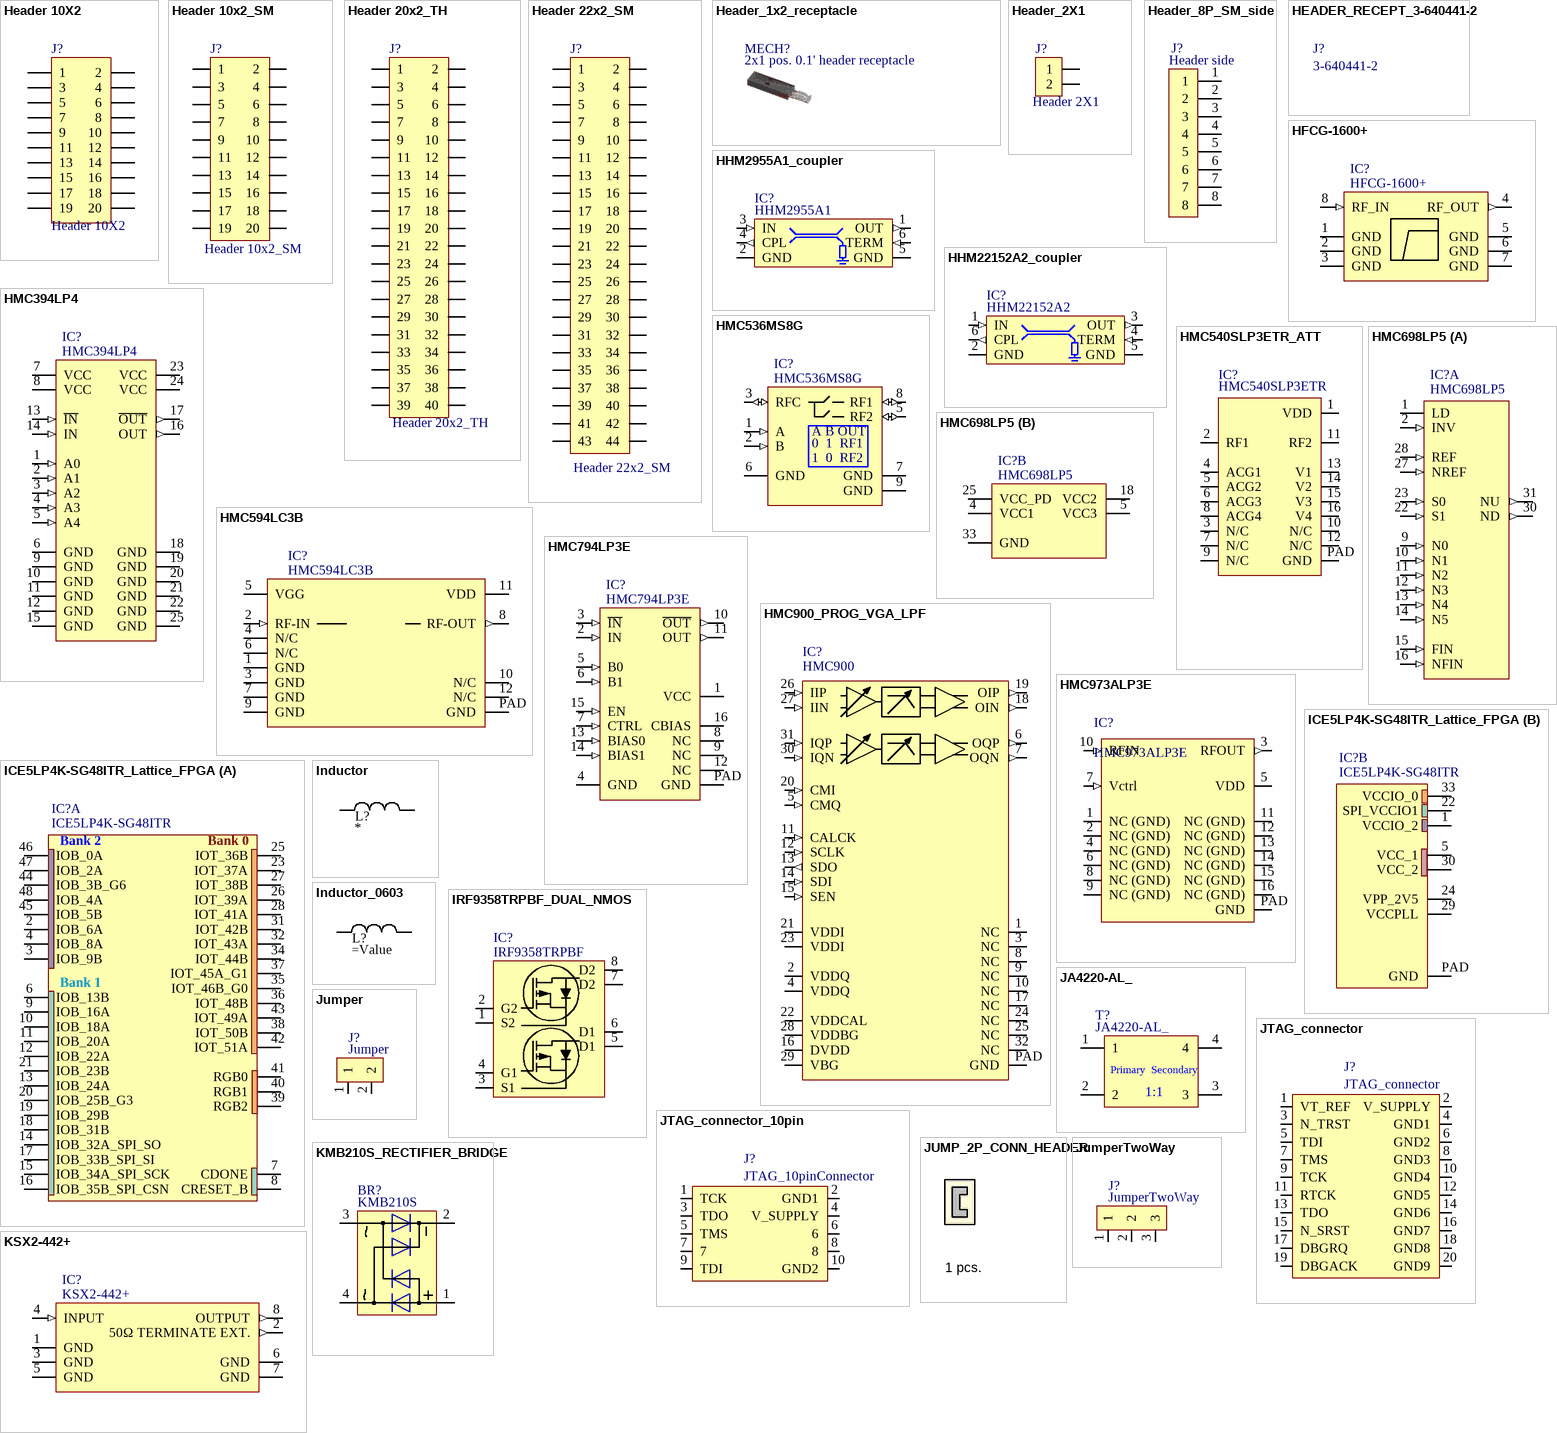
[diagram p50: symbols Header 10X2 to KSX2-442+]

## Header 10X2
designator J?
Header, 10-Pin, Dual row
pins: 1, 2, 3, 4, 5, 6, 7, 8, 9, 10, 11, 12, 13, 14, 15, 16, 17, 18, 19, 20

## Header 10x2_SM
designator J?
Manufacturer: Amphenol FCI; Manufacturer Part Number 1: 20021121-00020C4LF; Part Description: 20 Positions Header Connector 0.050" (1.27mm) Surface Mount Gold; Pitch - Mating: 0.050" (1.27mm); Style: Board to Board; Shrouding: Unshrouded; Number of Positions: 20; Number of Positions Loaded: All; Contact Length - Mating: 0.120" (3.05mm); Material Flammability Rating: UL94 V-0; Supplier 1: Digi-Key; RoHS: RoHS Compliant; Category: Connectors, Interconnects; Stock 1: 7468; Pricing 1: 1=1.49, 10=1.351, 100=1.1582 (USD); Packaging: Cut Tape (CT); Part Status: Active; Connector Type: Header; Contact Type: Male Pin; Number of Rows: 2; Row Spacing - Mating: 0.050" (1.27mm); Mounting Type: Surface Mount; Termination: Solder; Fastening Type: Push-Pull; Contact Length - Post: -; Overall Contact Length: -; Insulation Height: -; Contact Shape: Square; Contact Finish - Mating: Gold; Contact Finish Thickness - Mating: 10µin (0.25µm); Contact Finish - Post: Tin; Contact Material: Copper Alloy; Insulation Material: Thermoplastic; Features: Pick and Place; Operating Temperature: -; Ingress Protection: -; Insulation Color: Black; Current Rating: -; Voltage Rating: -; Mated Stacking Heights: -; Contact Finish Thickness - Post: 50µin (1.27µm); Applications: -; ComponentLink1URL: http://portal.fciconnect.com/Comergent//fci/drawing/20021121.pdf; ComponentLink1Description: http://portal.fciconnect.com/Comergent//fci/drawing/20021121.pdf; Supplier Part Number 1: 609-3698-1-ND
footprint Header10x2_SM_v2
pins: 1, 2, 3, 4, 5, 6, 7, 8, 9, 10, 11, 12, 13, 14, 15, 16, 17, 18, 19, 20

## Header 20x2_TH
designator J?
Manufacturer: Amphenol FCI; Manufacturer Part Number: 67996-140HLF; Part Description: Connector Header Through Hole 40 position 0.100" (2.54mm); Current Rating: 3A; Voltage Rating: 1.5kV; Number of Positions: 40; Insulation Resistance: 5GR; Gender: Male; Connector Type: Male Pin; Pitch: 2.54mm; Row Spacing: 0.1inch; Mating Post Length: 5.84mm; Supplier 1: Mouser; Stock 1: 136; Pricing 1: 1=1.48, 10=1.22, 50=1.22, 100=1.15, 1000=0.824, 10000=0.714 (USD); Mount: Through Hole; Contact Plating: Gold,GXT; Contact Material: Bronze; Colour: Black; Housing Colour: Black; Housing Material: Thermoplastic; Min Operating Temperature: -65°C; Max Operating Temperature: 125°C; Number of Rows: 2; Contact Gender: Male; Packaging: Bulk; Package Quantity: 200; Termination: Solder; Number of Contacts: 40; Max Voltage Rating (AC): 1.5kV; Orientation: Straight; Length: 50.8mm; Contact Mating Length: 0.23inch; Termination Post Length: 2.41mm; Depth: 4.83mm; Radiation Hardening: No; Flammability Rating: UL94 V-0; Supplier Part Number 1: 649-67996-140HLF
footprint Header20x2_TH (JTAG)
pins: 1, 2, 3, 4, 5, 6, 7, 8, 9, 10, 11, 12, 13, 14, 15, 16, 17, 18, 19, 20, 21, 22, 23, 24, 25, 26, 27, 28, 29, 30, 31, 32, 33, 34, 35, 36, 37, 38, 39, 40

## Header 22x2_SM
designator J?
footprint Header22x2_SM
pins: 1, 2, 3, 4, 5, 6, 7, 8, 9, 10, 11, 12, 13, 14, 15, 16, 17, 18, 19, 20, 21, 22, 23, 24, 25, 26, 27, 28, 29, 30, 31, 32, 33, 34, 35, 36, 37, 38, 39, 40, 41, 42, 43, 44

## Header_1x2_receptacle
designator MECH?, comment 2x1 pos. 0.1' header receptacle  (mechanical)
Part Description: 2 Position Rectangular Receptacle Connector IDC Gold 24 AWG; Manufacturer: Molex; Manufacturer Part Number 1: 0014562021; Contact Resistance: 15mR; Max Voltage Rating (DC): 250.25kV; Current Rating: 3A; Voltage Rating: 250V; Connector Type: Receptacle,Socket,IDC; Number of Positions: 2; Wire/Cable Type: Discrete,Ribbon; Wire/Cable Gauge: 24AWG; Pitch: 2.54mm; Glow Wire Compliant: Non-compliant; Supplier 1: Digi-Key; Supplier Part Number 1: 23-0014562021-ND; Stock 1: 5637; Pricing 1: 2=0,78000, 10=0,68600, 26=0,64577, 50=0,61880, 100=0,59180, 250=0,53800, 500=0,48420, 1000=0,43040, 2500=0,39005 (USD); RoHS: Yes; Mount: Free Hanging,Cable; Contact Plating: Gold; Contact Material: Bronze; Color: Black; Housing Color: Black; Housing Material: Polyester; Min Operating Temperature: -40°C; Max Operating Temperature: 105°C; Number of Rows: 1; Contact Gender: Female; Package Quantity: 1; Packaging: Rail/Tube; Termination: IDT; Number of Contacts: 2; Orientation: Straight; Number of Circuits: 2; Length: 5.05mm; Height: 15.2mm; Width: 2.51mm; Lead Free: Lead Free; ComponentLink1URL: https://datasheet.ciiva.com/5162/0014562021-rb-cbl-wr-trp-conn-156807-5162409.pdf?src-supplier=Mouser; ComponentLink1Description: https://datasheet.ciiva.com/5162/0014562021-rb-cbl-wr-trp-conn-156807-5162409.pdf?src-supplier=Mouser; ComponentLink2URL: https://datasheet.ciiva.com/702/014562021-sd-702522.pdf?src-supplier=Digi-Key; ComponentLink2Description: https://datasheet.ciiva.com/702/014562021-sd-702522.pdf?src-supplier=Digi-Key; ComponentLink3URL: https://datasheet.ciiva.com/30109/85530014562021-rb-cbl-wr-trp-n-30109738.pdf?src-supplier=Onlinecomponents.com; ComponentLink3Description: https://datasheet.ciiva.com/30109/85530014562021-rb-cbl-wr-trp-n-30109738.pdf?src-supplier=Onlinecomponents.com

## Header_2X1
designator J?, comment Header 2X1
pins: 1, 2

## Header_8P_SM_side
designator J?, comment Header side
Header, 90deg angle, 2,54 pitch
footprint Header8x1_SM
pins: 1, 2, 3, 4, 5, 6, 7, 8

## HEADER_RECEPT_3-640441-2
designator J?, comment 3-640441-2  (mechanical)
Receptacle for 0.2'' 2 pin connector 640456-2; Manufacturer: AMP - TE CONNECTIVITY; Part Description: 2 Position Rectangular Receptacle Connector IDC Tin 24 AWG; Supplier 1: Digi-Key; Supplier Part Number 1: A30978-ND; Manufacturer Part Number 1: 3-640441-2; Stock 1: 17531; Pricing 1: 1=0,18000, 10=0,17300, 25=0,12880, 50=0,11040, 100=0,10670, 250=0,09204, 500=0,08834, 1000=0,07730, 2500=0,06994 (USD); RoHS: No; ComponentLink1URL: http://www.farnell.com/datasheets/2043229.pdf?src-supplier=Farnell; ComponentLink1Description: http://www.farnell.com/datasheets/2043229.pdf?src-supplier=Farnell; ComponentLink2URL: https://media.digikey.com/pdf/Data%20Sheets/Tyco%20Electonics%20AMP%20PDFs/640441_Dwg.pdf?src-supplier=Digi-Key; ComponentLink2Description: https://media.digikey.com/pdf/Data%20Sheets/Tyco%20Electonics%20AMP%20PDFs/640441_Dwg.pdf?src-supplier=Digi-Key

## HFCG-1600+
designator IC?
High Pass Filter 50Ω  1650 to 5000 MHz; Manufacturer: Mini-Circuits; Part Description: High Pass Filter 50Ω  1650 to 5000 MHz; Manufacturer Part Number 1: HFCG-1600+; Supplier 1: Mini-Circuits; Supplier Part Number 1: HFCG-1600+
footprint HFCG-1600+
pins: 1 GND, 2 GND, 3 GND, 4 RF_OUT (out), 5 GND, 6 GND, 7 GND, 8 RF_IN (in)

## HHM2955A1_coupler
designator IC?, comment HHM2955A1
Part Description: RF Directional Coupler General Purpose 1.427GHz ~ 5.95GHz 25.8dB 3W 0402 (1005 Metric), 6 PC Pad; Manufacturer: TDK; Supplier 1: Digikey; Supplier Part Number 1: 445-HHM2955A1CT-ND; Manufacturer Part Number 1: HHM2955A1; Stock 1: 17146; Pricing 1: 1=0,27, 10=0,241, 25=0,218, 100=0,1908, 250=0,1674, 500=0,14794, 1000=0,1168, 5000=0,10356 (USD); RoHS: No
footprint HHM2955A1_COUPLER
pins: 1 OUT (out), 2 GND, 3 IN (in), 4 CPL (out), 5 GND, 6 TERM (in)

## HHM22152A2_coupler
designator IC?, comment HHM22152A2
Part Description: RF Directional Coupler General Purpose 3W 0603 (1608 Metric), 6 PC Pad; Manufacturer: TDK; Insertion Loss: 0.4dB; Max Power Dissipation: 3W; Return Loss: 15dB; Supplier 1: Digikey; Supplier Part Number 1: 445-175379-1-ND; Manufacturer Part Number 1: HHM22152A2; Stock 1: 18287; Pricing 1: 1=0,22, 10=0,192, 25=0,1804, 100=0,1648, 250=0,15532, 500=0,14864, 1000=0,14231 (USD); RoHS: Yes; Case/Package: 1608; Case Code (Imperial): 0603; Case Code (Metric): 1608; Series: HHM; Packaging: Cut Tape
footprint HHM22152A2_DIRECTIONAL_COUPLER
pins: 1 IN (in), 2 GND, 3 OUT (out), 4 TERM (in), 5 GND, 6 CPL (out)

## HMC394LP4
designator IC?
GaAs HBT PROGRAMMABLE 5-BIT COUNTER, DC - 2.2 GHz; Manufacturer: Analog Devices; Manufacturer Part Number 1: HMC394LP4; Part Description: GaAs HBT PROGRAMMABLE 5-BIT COUNTER, DC - 2.2 GHz; Supplier 1: Mouser; Supplier Part Number 1: 584-HMC394LP4
pins: 1 A0 (in), 2 A1 (in), 3 A2 (in), 4 A3 (in), 5 A4 (in), 6 GND, 7 VCC (power), 8 VCC (power), 9 GND, 10 GND, 11 GND, 12 GND, 13 ~{IN} (in), 14 IN (in), 15 GND, 16 OUT (out), 17 ~{OUT} (out), 18 GND, 19 GND, 20 GND, 21 GND, 22 GND, 23 VCC (power), 24 VCC (power), 25 GND

## HMC536MS8G
designator IC?
GaAs MMIC POSITIVE CONTROLT/R SWITCH, DC - 6 GHz; Manufacturer: Analog Devices; Part Description: RF Switch ICs 3 Watt SPDT T/R Switch SMT, DC - 6 GHz; Manufacturer Part Number 1: HMC536MS8G; Supplier 1: Mouser; Supplier Part Number 1: 584-HMC536MS8GE
footprint HMC536MS8G_HSOP8
pins: 1 A (in), 2 B (in), 3 RFC (io), 4 N/C hidden, 5 RF2 (io), 6 GND, 7 GND, 8 RF1 (io), 9 GND
text: A B OUT; 0  1  RF1; 1  0  RF2

## HMC540SLP3ETR_ATT
designator IC?, comment HMC540SLP3ETR
Manufacturer: Analog Devices; Part Description: Digital Step Attenuator 8000MHz 16-Pin QFN EP T/R; Supplier 1: Mouser; Manufacturer Part Number 1: HMC540SLP3ETR; Stock 1: 500; Pricing 1: 1=9,54, 10=7,34, 50=6,79, 100=5,93, 1000=4,93, 10000=4,93 (USD); RoHS: No; ComponentLink1URL: http://www.mouser.com/ds/2/609/hmc540s-892462.pdf?src-supplier=Mouser; ComponentLink1Description: http://www.mouser.com/ds/2/609/hmc540s-892462.pdf?src-supplier=Mouser; ComponentLink2URL: https://www.analog.com/media/en/technical-documentation/data-sheets/hmc540s.pdf?src-supplier=Digikey; ComponentLink2Description: https://www.analog.com/media/en/technical-documentation/data-sheets/hmc540s.pdf?src-supplier=Digikey; ComponentLink3URL: https://datasheet.octopart.com/HMC540SLP3ETR-Analog-Devices-datasheet-78863282.pdf?src-supplier=Element14; ComponentLink3Description: https://datasheet.octopart.com/HMC540SLP3ETR-Analog-Devices-datasheet-78863282.pdf?src-supplier=Element14; Supplier Part Number 1: 584-HMC540SLP3ETR
footprint HMC540SLP3E
pins: 1 VDD, 2 RF1 (io), 3 N/C, 4 ACG1, 5 ACG2, 6 ACG3, 7 N/C, 8 ACG4, 9 N/C, 10 N/C, 11 RF2 (io), 12 N/C, 13 V1, 14 V2, 15 V3, 16 V4, PAD GND

## HMC594LC3B
designator IC?
GaAs PHEMT MMIC LOW NOISE AMPLIFIER, 2 - 4 GHz; Manufacturer: Analog Devices; Manufacturer Part Number 1: HMC594LC3B; Part Description: GaAs PHEMT MMIC LOW NOISE AMPLIFIER, 2 - 4 GHz; Supplier 1: Mouser; Supplier Part Number 1: 584-HMC594LC3B
footprint HMC594LC3B_QFN3x3_12 (Quad Flat No Lead, Plastic; 16 Terminals; Body 3 x 3 mm; Pitch 0.5 mm)
pins: 1 GND, 2 RF-IN (in), 3 GND, 4 N/C, 5 VGG (power), 6 N/C, 7 GND, 8 RF-OUT (out), 9 GND, 10 N/C, 11 VDD (power), 12 N/C, PAD GND

## HMC698LP5
designator IC?
7 GHz INTEGER N SYNTHESIZER; Part Description: Phase Locked Loops - PLL Synthesizer 4/5 Div w/LD INV; Manufacturer: Analog Devices; Manufacturer Part Number 1: HMC698LP5; Supplier 1: Mouser; Supplier Part Number 1: 584-HMC698LP5E
footprint HMC698LP5_QFN5X5_32 (QFN, 32-Leads, Body 5x5mm, Pitch 0.5mm, IPC High Density)
part A pins: 1 LD, 2 INV (in), 3 N/C hidden, 6 N/C hidden, 7 N/C hidden, 8 N/C hidden, 9 N0 (in), 10 N1 (in), 11 N2 (in), 12 N3 (in), 13 N4 (in), 14 N5 (in), 15 FIN (in), 16 NFIN (in), 17 N/C hidden, 19 N/C hidden, 20 N/C hidden, 21 N/C hidden, 22 S1 (in), 23 S0 (in), 24 N/C hidden, 26 N/C hidden, 27 NREF (in), 28 REF (in), 29 N/C hidden, 30 ND (out), 31 NU (out), 32 N/C hidden
part B pins: 4 VCC1 (power), 5 VCC3 (power), 18 VCC2 (power), 25 VCC_PD (power), 33 GND